# Altium schematic symbol library WiFi_Lib.SchLib: 74 symbols (part 3 of 3)
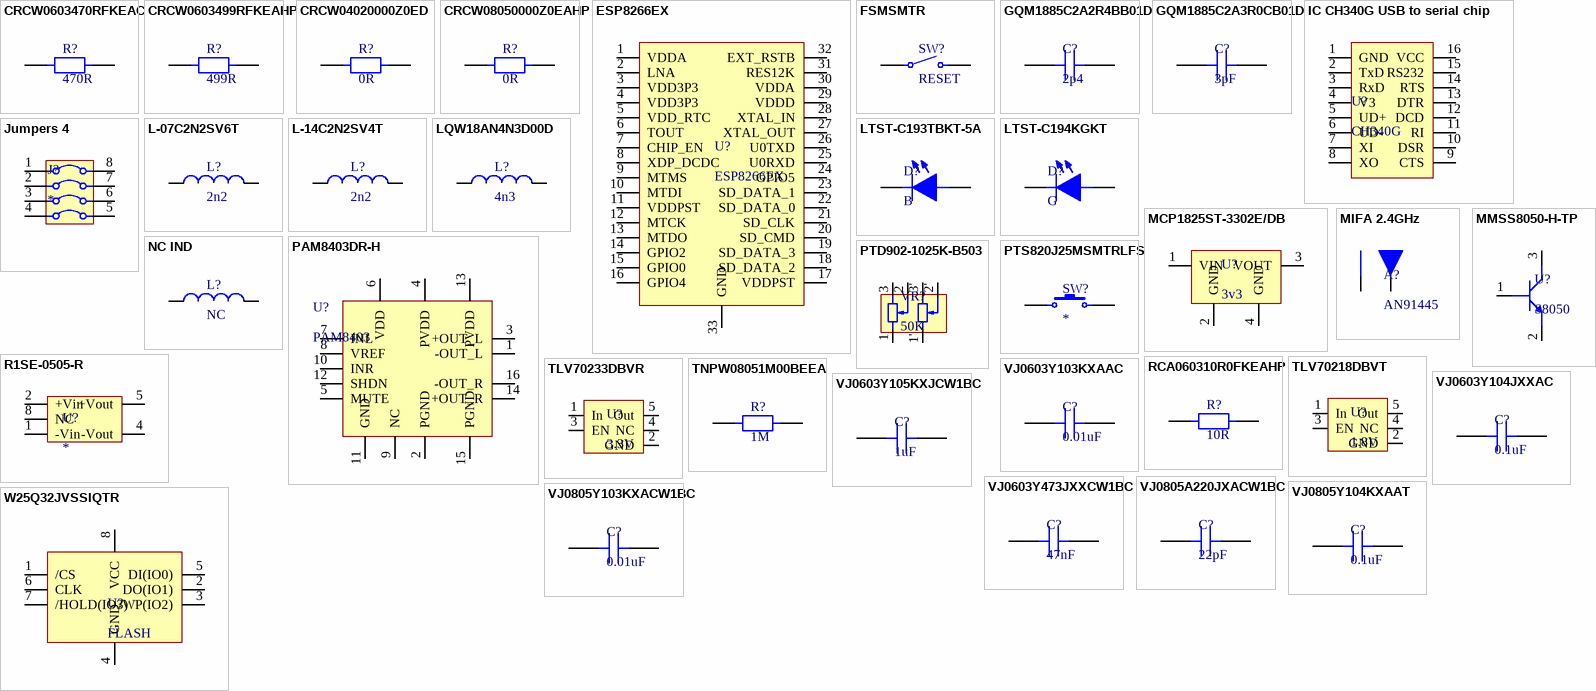
[diagram p3: symbols CRCW0603470RFKEAC to W25Q32JVSSIQTR]

## RCA060310R0FKEAHP
designator R?, comment 10R
RES SMD 10 0603 1% 1/4W; Manufacturer: Vishay Dale; Manufacturer Part Number: RCA060310R0FKEAHP; Core Material: Non-Magnetic; Tolerance: 2%; Max Power Dissipation: 250mW; Temperature Coefficient: 100ppm/°C; Inductance: 15nH; Current Rating: 700mA; Shielding: Unshielded; DC Resistance (DCR): 170mR; Self Resonant Frequency: 4GHz; Test Frequency: 250MHz; Supplier 1: Digi-Key; Supplier Part Number 1: 541-3243-1-ND; Stock 1: 23109; Pricing 1: 1=0.18, 10=0.156, 100=0.0611, 1000=0.0256, 2500=0.0234 (USD); Mount: Surface Mount; Case/Package: 0603; Case Code (Imperial): 0603; Case Code (Metric): 1608; Min Operating Temperature: -55°C; Max Operating Temperature: 125°C; Composition: Thick Film,Wirewound; Features: Automotive AEC-Q200,Anti-Sulfur; Packaging: Cut Tape; Resistance: 10R; Number of Terminations: 2; Ratings: AEC-Q200; ComponentLink1URL: http://www.vishay.com/docs/20067/rcahp.pdf?src-supplier=Digi-Key; ComponentLink1Description: http://www.vishay.com/docs/20067/rcahp.pdf?src-supplier=Digi-Key
footprint RES 0603 (Chip Resistor, 2-Leads, Body 1.60x0.85mm, IPC Medium Density)
pins: 1, 2

## TLV70218DBVT
designator U?, comment 1.8V
IC REG LIN 1.8V 300MA SOT23-5; Manufacturer: Texas Instruments; Manufacturer Part Number: TLV70218DBVT; Dropout Voltage: 220mV; Number of Outputs: 1; Max Power Dissipation: 500mW; Max Input Voltage: 5.5V; Min Input Voltage: 2V; Min Current Limit: 320mA; Polarity: Positive; Quiescent Current: 30uA; Accuracy: 2%; Output Voltage Accuracy: 0.5%; Output Type: Fixed; Supplier 1: Digi-Key; Supplier Part Number 1: 296-27889-1-ND; Stock 1: 3659; Pricing 1: 1=0.58, 10=0.495, 100=0.3696 (USD); Case/Package: SOT-23; Number of Pins: 5; Contact Plating: Gold; Min Operating Temperature: -40°C; Max Operating Temperature: 125°C; Nominal Output Voltage: 1.8V; Output Current: 300mA; Output Voltage: 1.8V; Packaging: Tape and Reel; Package Quantity: 1; Max Output Current: 300mA; Number of Regulators: 1; Power Dissipation: 500mW; Min Output Voltage: 1.8V; Power Rating: 500mW; Max Output Voltage: 1.8V; Length: 3.05mm; Height: 1.3mm; Width: 1.75mm; REACH SVHC: No SVHC; Lead Free: Lead Free; ComponentLink1URL: http://www.ti.com/lit/ds/symlink/tlv702.pdf?src-supplier=Digi-Key; ComponentLink1Description: http://www.ti.com/lit/ds/symlink/tlv702.pdf?src-supplier=Digi-Key
footprint SOT-23-5 (SOT23, 5-Leads, Body 2.90x2.80mm, Pitch 0.95mm, IPC Medium Density)
pins: 1 In, 2 GND, 3 EN, 4 NC, 5 Out

## TLV70233DBVR
designator U?, comment 3.3V
IC REG LIN 3.3V 300mALow IQLDO Reg; Manufacturer: Texas Instruments; Manufacturer Part Number: TLV70233DBVR; Output Current: 300mA; Number of Outputs: 1; Max Power Dissipation: 500mW; Dropout Voltage: 375mV; Max Input Voltage: 5.5V; Min Input Voltage: 2V; Min Current Limit: 320mA; Polarity: Positive; Output Voltage Accuracy: 0.5%; Accuracy: 2%; Quiescent Current: 30uA; Power Supply Rejection Ratio (PSRR): 68dB; Output Type: Fixed; Supplier 1: Digi-Key; Supplier Part Number 1: 296-32415-1-ND; Stock 1: 29164; Pricing 1: 1=0.5, 10=0.428, 100=0.3192, 500=0.2508, 1000=0.1938 (USD); Case/Package: SOT-23-5; Number of Pins: 5; Min Operating Temperature: -40°C; Max Operating Temperature: 125°C; Output Voltage: 3.3V; Packaging: Tape and Reel; Package Quantity: 1; Nominal Output Voltage: 3.3V; Max Output Current: 300mA; Number of Regulators: 1; Power Dissipation: 500mW; Min Output Voltage: 3.3V; Max Output Voltage: 3.3V; Radiation Hardening: No; REACH SVHC: No SVHC; Lead Free: Lead Free; ComponentLink1URL: http://www.farnell.com/datasheets/1882072.pdf?src-supplier=Element14; ComponentLink1Description: http://www.farnell.com/datasheets/1882072.pdf?src-supplier=Element14; ComponentLink2URL: http://www.ti.com/lit/ds/symlink/tlv702.pdf?src-supplier=Digi-Key; ComponentLink2Description: http://www.ti.com/lit/ds/symlink/tlv702.pdf?src-supplier=Digi-Key
footprint SOT-23-5 (SOT23, 5-Leads, Body 2.90x2.80mm, Pitch 0.95mm, IPC Medium Density)
pins: 1 In, 2 GND, 3 EN, 4 NC, 5 Out

## TNPW08051M00BEEA
designator R?, comment 1M
RES SMD 1M 0805 1/8W 0.1%; Manufacturer: Vishay Dale; Manufacturer Part Number: TNPW08051M00BEEA; Voltage Rating: 150V; Power Rating: 125mW; Resistance: 1MR; Temperature Coefficient: 25ppm/°C; Voltage Rating (DC): 75V; Supplier 1: Digi-Key; Supplier Part Number 1: 541-2059-1-ND; Stock 1: 13701; Mount: Surface Mount; Case/Package: 0805; Number of Pins: 2; Case Code (Metric): 2012; Case Code (Imperial): 0805; Contact Plating: Tin; Min Operating Temperature: -55°C; Max Operating Temperature: 125°C; Package Quantity: 5000; Packaging: Tape and Reel; Tolerance: 0.1%; Composition: Thin Film; Termination: SMD/SMT; Number of Terminations: 2; Military Standard: Not; Max Power Dissipation: 125mW; Features: Automotive AEC-Q200,Moisture Resistant,Anti-Sulfur; Length: 2mm; Height: 0.022inch; Width: 1.25mm; Depth: 1.25mm; Radiation Hardening: No; REACH SVHC: Unknown; ComponentLink1URL: http://www.vishay.com/docs/28758/tnpw_e3.pdf?src-supplier=Digi-Key; ComponentLink1Description: http://www.vishay.com/docs/28758/tnpw_e3.pdf?src-supplier=Digi-Key; ComponentLink2URL: http://www.vishay.com/docs/28758/tnpw_e3.pdf?src-supplier=Avnet; ComponentLink2Description: http://www.vishay.com/docs/28758/tnpw_e3.pdf?src-supplier=Avnet
footprint RES 0805 (Chip Resistor, 2-Leads, Body 1.95x1.20mm, IPC Medium Density)
pins: 1, 2

## VJ0603Y103KXAAC
designator C?, comment 0.01uF
CAP CER 0.01uF 0603 10 nF 50 V ±10 % Tolerance X7R SMT Multilayer Ceramic Chip Capacitor; Manufacturer: Vishay Vitramon; Manufacturer Part Number: VJ0603Y103KXAAC; Tolerance: 10%; Capacitance: 10nF; Voltage Rating: 50V; Supplier 1: Digi-Key; Supplier Part Number 1: 720-1376-1-ND; Stock 1: 728512; Pricing 1: 1=0.26, 10=0.179, 100=0.1013, 500=0.0715, 1000=0.0625 (USD); Mount: Surface Mount; Case/Package: 0603; Number of Pins: 2; Weight: 7.1E-05oz; Case Code (Metric): 1608; Case Code (Imperial): 0603; Contact Plating: Tin,Matte; Min Operating Temperature: -55°C; Max Operating Temperature: 125°C; Packaging: Tape and Reel; Package Quantity: 4000; Voltage Rating (DC): 50V; Dielectric: X7R; Termination: SMD/SMT; Voltage: 50V; Length: 1.6mm; Height: 0.92mm; Width: 0.031inch; Thickness: 0.036inch; Depth: 0.8mm; Radiation Hardening: No; REACH SVHC: Unknown; Lead Free: Lead Free; ComponentLink1URL: http://www.farnell.com/datasheets/1805045.pdf?src-supplier=Element14; ComponentLink1Description: http://www.farnell.com/datasheets/1805045.pdf?src-supplier=Element14; ComponentLink2URL: http://www.farnell.com/datasheets/2049137.pdf?src-supplier=Element14; ComponentLink2Description: http://www.farnell.com/datasheets/2049137.pdf?src-supplier=Element14; ComponentLink3URL: http://www.farnell.com/datasheets/50102.pdf?src-supplier=Element14; ComponentLink3Description: http://www.farnell.com/datasheets/50102.pdf?src-supplier=Element14; ComponentLink4URL: http://www.vishay.com/docs/45051/vjvitramonpackaging.pdf?src-supplier=Digi-Key; ComponentLink4Description: http://www.vishay.com/docs/45051/vjvitramonpackaging.pdf?src-supplier=Digi-Key
footprint CAP 0603 (Chip Capacitor, 2-Leads, Body 1.60x0.82mm, IPC Medium Density)
pins: 1, 2

## VJ0603Y104JXXAC
designator C?, comment 0.1uF
CAP CER 0.1uF 0603- SMD/SMT .1UF 25V 5% 0603; Manufacturer: Vishay Vitramon; Manufacturer Part Number: VJ0603Y104JXXAC; Capacitance: 100nF; Dielectric: X7R; Supplier 1: Digi-Key; Supplier Part Number 1: 720-1545-1-ND; Stock 1: 126786; Pricing 1: 1=0.34, 10=0.233, 100=0.1397, 500=0.1048, 1000=0.0885 (USD); Mount: Surface Mount; Case/Package: 0603; Case Code (Metric): 1608; Case Code (Imperial): 0603; Min Operating Temperature: -55°C; Max Operating Temperature: 125°C; Package Quantity: 4000; Voltage Rating: 25V; Tolerance: 5%; Packaging: Tape and Reel; Voltage Rating (DC): 25V; Termination: SMD/SMT; Length: 1.6mm; Width: 0.031inch; Thickness: 0.036inch; Depth: 0.8mm; Radiation Hardening: No; ComponentLink1URL: http://www.vishay.com/docs/45199/vjcommercialseries.pdf?src-supplier=Digi-Key; ComponentLink1Description: http://www.vishay.com/docs/45199/vjcommercialseries.pdf?src-supplier=Digi-Key
footprint CAP 0603 (Chip Capacitor, 2-Leads, Body 1.60x0.82mm, IPC Medium Density)
pins: 1, 2

## VJ0603Y105KXJCW1BC
designator C?, comment 1uF
CAP CER 1uF 0603 16V X7R 10% SMD 125C Paper T/R; Manufacturer: Vishay Semiconductors; Manufacturer Part Number: VJ0603Y105KXJCW1BC; Dielectric Material: Tantalum; Supplier 1: Digi-Key; Supplier Part Number 1: 720-1852-1-ND; Stock 1: 970843; Pricing 1: 1=0.29, 10=0.196, 100=0.0991, 500=0.0678, 1000=0.06 (USD); Mount: Surface Mount; Case/Package: 0603; Min Operating Temperature: -55°C; Max Operating Temperature: 125°C; Capacitance: 1uF; Tolerance: 10%; Packaging: Tape and Reel; Dielectric: X7R; Voltage Rating (DC): 16V; Length: 1.6mm; Depth: 0.8mm; Radiation Hardening: No; Lead Free: Lead Free; ComponentLink1URL: http://www.vishay.com/docs/28548/vjw1bcbascomseries.pdf?src-supplier=Avnet; ComponentLink1Description: http://www.vishay.com/docs/28548/vjw1bcbascomseries.pdf?src-supplier=Avnet; ComponentLink2URL: http://www.vishay.com/docs/28548/vjw1bcbascomseries.pdf?src-supplier=Avnet+Europe; ComponentLink2Description: http://www.vishay.com/docs/28548/vjw1bcbascomseries.pdf?src-supplier=Avnet+Europe
footprint CAP 0603 (Chip Capacitor, 2-Leads, Body 1.60x0.82mm, IPC Medium Density)
pins: 1, 2

## VJ0603Y473JXXCW1BC
designator C?, comment 47nF
CAP CER 47nF 0603 25 V ±5 % Tolerance X7R SMT Multilayer Ceramic Chip Capacitor; Manufacturer: Vishay Vitramon; Manufacturer Part Number: VJ0603Y473JXXCW1BC; Dielectric Material: Tantalum; Tolerance: 5%; Voltage Rating: 25V; Supplier 1: Digi-Key; Supplier Part Number 1: 720-1696-1-ND; Stock 1: 4000; Pricing 1: 1=0.19, 10=0.137, 100=0.0643, 500=0.0451, 1000=0.0373 (USD); Mount: Surface Mount; Case/Package: 0603; Case Code (Imperial): 0603; Case Code (Metric): 1608; Min Operating Temperature: -55°C; Max Operating Temperature: 125°C; Capacitance: 47nF; Packaging: Tape and Reel; Voltage Rating (DC): 25V; Package Quantity: 4000; Dielectric: X7R; Termination: SMD/SMT; Length: 1.6mm; Height: 0.95mm; Width: 0.8mm; Depth: 0.8mm; Radiation Hardening: No; Lead Free: Lead Free; ComponentLink1URL: http://www.vishay.com/docs/28548/vjw1bcbascomseries.pdf?src-supplier=Future+Electronics; ComponentLink1Description: http://www.vishay.com/docs/28548/vjw1bcbascomseries.pdf?src-supplier=Future+Electronics
footprint CAP 0603 (Chip Capacitor, 2-Leads, Body 1.60x0.82mm, IPC Medium Density)
pins: 1, 2

## VJ0805A220JXACW1BC
designator C?, comment 22pF
CAP CER 22 pF 0805 50 V ±5 % Tolerance C0G/NP0 SMT Multilayer; Manufacturer: Vishay; Manufacturer Part Number: VJ0805A220JXACW1BC; Dielectric Material: Ceramic; Tolerance: 5%; Voltage Rating: 50V; Dielectric: C0G; Temperature Coefficient: 0ppm/°C; Supplier 1: Digi-Key; Supplier Part Number 1: 720-1601-1-ND; Stock 1: 7193; Pricing 1: 1=0.19, 10=0.13, 100=0.0661, 500=0.0452, 1000=0.04 (USD); Mount: Surface Mount; Case/Package: 0805; Number of Pins: 2; Case Code (Imperial): 0805; Case Code (Metric): 2012; Min Operating Temperature: -55°C; Max Operating Temperature: 125°C; Capacitance: 22pF; Packaging: Tape and Reel; Voltage Rating (DC): 50V; Package Quantity: 4000; Termination: SMD/SMT; Length: 2mm; Height: 1.45mm; Width: 1.25mm; Thickness: 0.03inch; Depth: 1.25mm; Radiation Hardening: No; Lead Free: Lead Free; ComponentLink1URL: http://www.vishay.com/docs/28548/vjw1bcbascomseries.pdf?src-supplier=Future+Electronics; ComponentLink1Description: http://www.vishay.com/docs/28548/vjw1bcbascomseries.pdf?src-supplier=Future+Electronics; ComponentLink2URL: http://www.vishay.com/docs/28548/vjw1bcbascomseries.pdf?src-supplier=Digi-Key; ComponentLink2Description: http://www.vishay.com/docs/28548/vjw1bcbascomseries.pdf?src-supplier=Digi-Key; Category: Capasitors
footprint CAP 0805 (Chip Capacitor, 2-Leads, Body 1.95x1.25mm, IPC Medium Density)
pins: 1, 2

## VJ0805Y103KXACW1BC
designator C?, comment 0.01uF
CAP CER 0.01uF 0805 50V X7R; Manufacturer: Vishay; Manufacturer Part Number: VJ0805Y103KXACW1BC; Dielectric Material: Tantalum; Capacitance: 10nF; Tolerance: 10%; Supplier 1: Digi-Key; Supplier Part Number 1: BC1293CT-ND; Stock 1: 119522; Mount: Surface Mount; Case/Package: 0805; Number of Pins: 2; Case Code (Metric): 2012; Case Code (Imperial): 0805; Min Operating Temperature: -55°C; Max Operating Temperature: 125°C; Voltage Rating: 50V; Packaging: Tape and Reel; Package Quantity: 4000; Voltage Rating (DC): 50V; Dielectric: X7R; Termination: SMD/SMT; Voltage: 50V; Length: 2mm; Height: 1.45mm; Width: 0.049inch; Thickness: 0.037inch; Depth: 1.25mm; Radiation Hardening: No; REACH SVHC: Unknown; Lead Free: Lead Free; ComponentLink1URL: http://www.vishay.com/docs/28548/vjw1bcbascomseries.pdf?src-supplier=Avnet; ComponentLink1Description: http://www.vishay.com/docs/28548/vjw1bcbascomseries.pdf?src-supplier=Avnet; ComponentLink2URL: https://www.vishay.com/docs/28548/vjw1bcbascomseries.pdf?src-supplier=Digi-Key; ComponentLink2Description: https://www.vishay.com/docs/28548/vjw1bcbascomseries.pdf?src-supplier=Digi-Key; ComponentLink3URL: http://www.mouser.com/ds/2/427/vjw1bcbascomseries-223529.pdf?src-supplier=Mouser; ComponentLink3Description: http://www.mouser.com/ds/2/427/vjw1bcbascomseries-223529.pdf?src-supplier=Mouser; ComponentLink4URL: http://www.vishay.com/docs/28548/vjw1bcbascomseries.pdf?src-supplier=Avnet+Europe; ComponentLink4Description: http://www.vishay.com/docs/28548/vjw1bcbascomseries.pdf?src-supplier=Avnet+Europe; ComponentLink5URL: http://www.vishay.com/docs/28548/vjw1bcbascomseries.pdf?src-supplier=Future+Electronics; ComponentLink5Description: http://www.vishay.com/docs/28548/vjw1bcbascomseries.pdf?src-supplier=Future+Electronics; ComponentLink6URL: http://www.farnell.com/datasheets/1805047.pdf?src-supplier=Element14; ComponentLink6Description: http://www.farnell.com/datasheets/1805047.pdf?src-supplier=Element14
footprint CAP 0805 (Chip Capacitor, 2-Leads, Body 1.95x1.25mm, IPC Medium Density)
pins: 1, 2

## VJ0805Y104KXAAT
designator C?, comment 0.1uF
CAP CER 0.1uF 0805 50V X7R; Manufacturer: Vishay Vitramon; Manufacturer Part Number: VJ0805Y104KXAAT; Capacitance: 100nF; Tolerance: 10%; Supplier 1: Digi-Key; Supplier Part Number 1: 720-1383-1-ND; Stock 1: 145518; Mount: Surface Mount; Case/Package: 0805; Weight: 0.000194oz; Case Code (Metric): 2012; Case Code (Imperial): 0805; Min Operating Temperature: -55°C; Max Operating Temperature: 125°C; Package Quantity: 1; Packaging: Tape and Reel; Voltage Rating: 50V; Voltage Rating (DC): 50V; Dielectric: X7R; Termination: SMD/SMT; Voltage: 50V; Length: 2mm; Height: 1.45mm; Width: 0.049inch; Thickness: 0.057inch; Depth: 1.25mm; Radiation Hardening: No; REACH SVHC: Unknown; Lead Free: Lead Free; ComponentLink1URL: http://www.mouser.com/ds/2/427/vjcommercialseries-222796.pdf?src-supplier=Mouser; ComponentLink1Description: http://www.mouser.com/ds/2/427/vjcommercialseries-222796.pdf?src-supplier=Mouser; ComponentLink2URL: http://www.vishay.com/docs/45199/vjcommercialseries.pdf?src-supplier=Digi-Key; ComponentLink2Description: http://www.vishay.com/docs/45199/vjcommercialseries.pdf?src-supplier=Digi-Key; ComponentLink3URL: http://www.vishay.com/docs/45199/vjcommercialseries.pdf?src-supplier=Future+Electronics; ComponentLink3Description: http://www.vishay.com/docs/45199/vjcommercialseries.pdf?src-supplier=Future+Electronics
footprint CAP 0805 (Chip Capacitor, 2-Leads, Body 1.95x1.25mm, IPC Medium Density)
pins: 1, 2

## W25Q32JVSSIQTR
designator U?, comment FLASH
IC FLASH 32M SPI 133MHZ 8SOIC; Manufacturer: Winbond; Manufacturer Part Number: W25Q32JVSSIQTR; Memory Type: FLASH,NOR; Frequency: 104MHz; Interface: SPI,Serial; Supplier 1: Digi-Key; Supplier Part Number 1: W25Q32JVSSIQCT-ND; Stock 1: 121887; Case/Package: SOIC; Min Operating Temperature: -40°C; Max Operating Temperature: 85°C; Packaging: Tape and Reel; ComponentLink1URL: http://www.winbond.com/resource-files/w25q32jv%20revg%2003272018%20plus.pdf?src-supplier=Digi-Key; ComponentLink1Description: http://www.winbond.com/resource-files/w25q32jv%20revg%2003272018%20plus.pdf?src-supplier=Digi-Key
footprint SOIC-8 208-mil (SOIC, 8-Leads, Body 5.28x5.28mm, Pitch 1.27mm, IPC Medium Density)
pins: 1 /CS, 2 DO(IO1), 3 /WP(IO2), 4 GND, 5 DI(IO0), 6 CLK, 7 /HOLD(IO3), 8 VCC